# EAGLE library part BC7210A (library Deegou_IC)
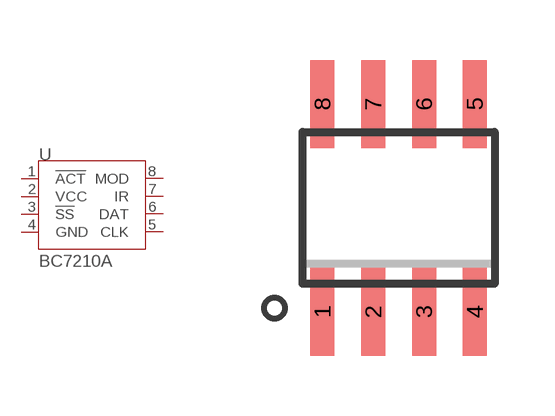
[diagram p15: symbol with the pads of SO08; footprint SO08]

Designator prefix U

## BC7210A  [SO08]
1  !ACT
2  VCC
3  !SS
4  GND
5  CLK
6  DAT
7  IR
8  MOD

## Footprint SO08 (pad centres in mm)
Small Outline Package 8 NS Package M08A
smd 0.6 x 2.2: 1 -1.905,-2.6; 2 -0.635,-2.6; 3 0.635,-2.6; 4 1.905,-2.6; 5 1.905,2.6; 6 0.635,2.6; 7 -0.635,2.6; 8 -1.905,2.6